# Altium footprint library Gen_func.PcbLib: 24 footprints (part 1 of 2)
Each footprint in its own frame and in the unit in brackets; x right, y up, seen from the top. Pads: shape width x height; smd on the part's side, far side on the other; paste and mask are expansions set on the pad; w line width, h text height; cw(c..) or ccw(c..) is an arc to the next point about the centre after c.
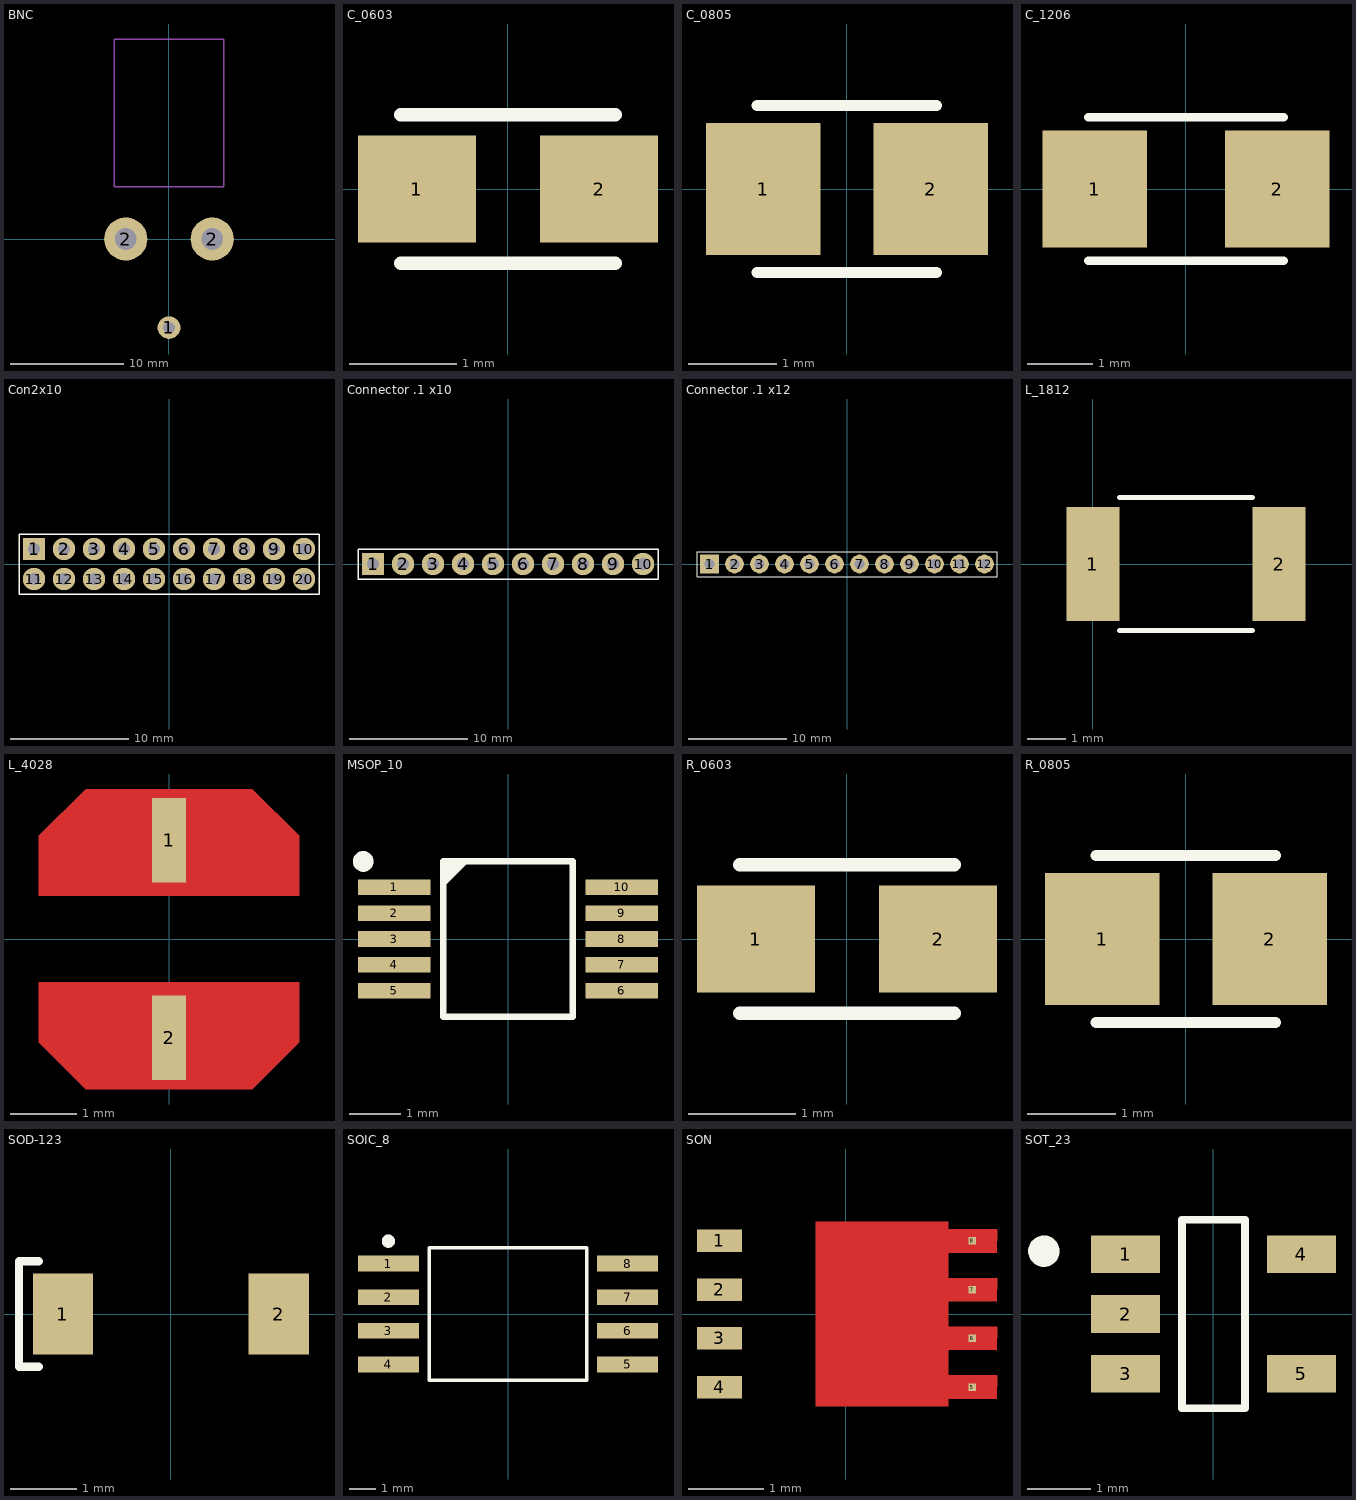
[diagram p0: the footprints below, top view; thin cyan lines are the x and y axes]

## BNC [mm] "BNC Connector"
pads (3):
  round 2 hole 1.02: 1(0,-7.8)
  round 3.8 hole 1.9: 2(-3.8,0) 2(3.8,0)
Mechanical 15:
  lines w0.127: -4.825,4.6 4.825,4.6 4.825,17.6 -4.825,17.6 -4.825,4.6

## C_0603 [mm]
height 0.028
pads (2):
  rect 1.1x1 smd: 1(-0.85,0) 2(0.85,0)
Top Overlay:
  lines w0.127: -1,-0.692 1,-0.692 ; -1,0.692 1,0.692

## C_0805 [mm]
height 0.028
pads (2):
  rect 1.3x1.5 smd: 1(-0.95,0) 2(0.95,0)
Top Overlay:
  lines w0.127: -1.016,-0.946 1.016,-0.946 ; -1.016,0.946 1.016,0.946

## C_1206 [mm]
height 0.028
pads (2):
  rect 1.6x1.8 smd: 1(-1.4,0) 2(1.4,0)
Top Overlay:
  lines w0.127: -1.5,-1.1 1.5,-1.1 ; -1.5,1.1 1.5,1.1

## Con2x10 [mm]
pads (20):
  rect 1.9x1.9 hole 1: 1(-11.43,1.27)
  round 1.9 hole 1: 2(-8.89,1.27) 3(-6.35,1.27) 4(-3.81,1.27) 5(-1.27,1.27) 6(1.27,1.27) 7(3.81,1.27) 8(6.35,1.27) 9(8.89,1.27) 10(11.43,1.27) 11(-11.43,-1.27) 12(-8.89,-1.27) 13(-6.35,-1.27) 14(-3.81,-1.27) 15(-1.27,-1.27) 16(1.27,-1.27) 17(3.81,-1.27) 18(6.35,-1.27) 19(8.89,-1.27) 20(11.43,-1.27)
Top Overlay:
  lines w0.127: -12.7,-2.54 12.7,-2.54 12.7,2.54 -12.7,2.54 -12.7,-1.27 -12.7,-2.54

## Connector .1 x10 [mm]
pads (10):
  rect 1.9x1.9 hole 1: 1(-11.43,0)
  round 1.9 hole 1: 2(-8.89,0) 3(-6.35,0) 4(-3.81,0) 5(-1.27,0) 6(1.27,0) 7(3.81,0) 8(6.35,0) 9(8.89,0) 10(11.43,0)
Top Overlay:
  lines w0.127: -12.7,-1.27 12.7,-1.27 12.7,1.27 -12.7,1.27 -12.7,0 -12.7,-1.27

## Connector .1 x12 [mm]
pads (12):
  rect 1.9x1.9 hole 1: 1(-13.97,0)
  round 1.9 hole 1: 2(-11.43,0) 3(-8.89,0) 4(-6.35,0) 5(-3.81,0) 6(-1.27,0) 7(1.27,0) 8(3.81,0) 9(6.35,0) 10(8.89,0) 11(11.43,0) 12(13.97,0)
Top Overlay:
  lines w0.127: -15.24,-1.27 15.24,-1.27 15.24,1.27 -15.24,1.27 -15.24,0 -15.24,-1.27

## L_1812 [mm]
height 0.028
pads (2):
  rect 1.4x3 smd: 1(0,0) 2(4.9,0)
Top Overlay:
  lines w0.127: 0.7,-1.75 4.2,-1.75 ; 0.7,1.75 4.2,1.75

## L_4028 [mil] "Inductor, 2-Leads"
pads (2):
  rect 20x50 smd: 1(0,58.31) 2(0,-58.31)
Top Layer:
  region: -76.77,25.59 76.77,25.59 76.77,61.02 49.21,88.58 -49.21,88.58 -76.77,61.02
  region: -76.77,-25.59 76.77,-25.59 76.77,-61.02 49.21,-88.58 -49.21,-88.58 -76.77,-61.02

## MSOP_10 [mm]
pads (10):
  rect 1.4x0.3 smd mask+0.05: 1(-2.2,1) 2(-2.2,0.5) 3(-2.2,0) 4(-2.2,-0.5) 5(-2.2,-1) 6(2.2,-1) 7(2.2,-0.5) 8(2.2,0) 9(2.2,0.5) 10(2.2,1)
Top Overlay:
  circle w0.2: c-2.8,1.5 r0.1
  region: -1.25,1 -0.75,1.5 -1.25,1.5
  lines w0.127: -1.25,-1.5 1.25,-1.5 1.25,1.5 -1.25,1.5 -1.25,-1.5

## R_0603 [mm]
height 0.028
pads (2):
  rect 1.1x1 smd: 1(-0.85,0) 2(0.85,0)
Top Overlay:
  lines w0.127: -1,-0.692 1,-0.692 ; -1,0.692 1,0.692

## R_0805 [mm]
pads (2):
  rect 1.3x1.5 smd: 1(-0.95,0) 2(0.95,0)
Top Overlay:
  lines w0.127: -1.016,-0.946 1.016,-0.946 ; -1.016,0.946 1.016,0.946

## SOD-123 [mm] "SOD-123, 2-Leads"
pads (2):
  rect 0.91x1.22 smd: 1(-1.635,0) 2(1.635,0)
Top Overlay:
  lines w0.127: -2,-0.8 -2.3,-0.8 -2.3,0.8 -2,0.8

## SOIC_8 [mm] "SOIC, 8-Leads, Body 4,90x3,90mm, Pitch 1,27mm, IPC Medium Density"
height 1.75
pads (8):
  rect 2.3x0.6 smd: 1(-4.525,1.905) 2(-4.525,0.635) 3(-4.525,-0.635) 4(-4.525,-1.905) 5(4.525,-1.905) 6(4.525,-0.635) 7(4.525,0.635) 8(4.525,1.905)
Top Overlay:
  circle w0.25: c-4.525,2.755 r0.125
  lines w0.127: -2.975,-2.5 2.975,-2.5 2.975,2.5 -2.975,2.5 -2.975,-2.5

## SON [mm] "SON, 8-Leads, 3x3mm"
pads (8):
  rect 0.6x0.3 smd: 1(-1.687,0.975) 2(-1.687,0.325) 3(-1.687,-0.325) 4(-1.687,-0.975)
  rect 0.1x0.1 smd: 5(1.687,-0.975) 6(1.687,-0.325) 7(1.687,0.325) 8(1.687,0.975)
Top Layer:
  region: -0.403,-1.225 -0.402,-1.229 -0.397,-1.231 -0.397,-1.23 1.362,-1.231 1.367,-1.229 1.368,-1.225 1.368,-1.13 2.013,-1.131 2.017,-1.129 2.018,-1.125 2.018,-0.825 2.017,-0.821 2.013,-0.819 2.013,-0.82 1.368,-0.82 1.368,-0.48 2.013,-0.481 2.017,-0.479 2.018,-0.475 2.018,-0.175 2.017,-0.171 2.013,-0.169 2.013,-0.17 1.368,-0.17 1.368,0.17 2.013,0.169 2.017,0.171 2.018,0.175 2.018,0.475 2.017,0.479 2.013,0.481 2.013,0.48 1.368,0.48 1.368,0.82 2.013,0.819 2.017,0.821 2.018,0.825 2.018,1.125 2.017,1.129 2.013,1.131 2.013,1.13 1.368,1.13 1.368,1.225 1.367,1.229 1.362,1.231 1.362,1.23 -0.397,1.231 -0.402,1.229 -0.403,1.225

## SOT_23 [mm] "SOT 23, 5 leads"
pads (5):
  rect 1.1x0.6 smd: 1(-1.4,0.95) 2(-1.4,0) 3(-1.4,-0.95) 4(1.4,0.95) 5(1.4,-0.95)
Top Overlay:
  circle w0.25: c-2.7,1 r0.125
  lines w0.127: -0.5,-1.5 -0.5,1.5 0.5,1.5 0.5,-1.5 -0.5,-1.5